# Altium footprint library Button_Switch_SMD.PcbLib: 169 footprints (part 6 of 12)
Each footprint in its own frame and in the unit in brackets; x right, y up, seen from the top. Pads: shape width x height; smd on the part's side, far side on the other; paste and mask are expansions set on the pad; w line width, h text height; cw(c..) or ccw(c..) is an arc to the next point about the centre after c.
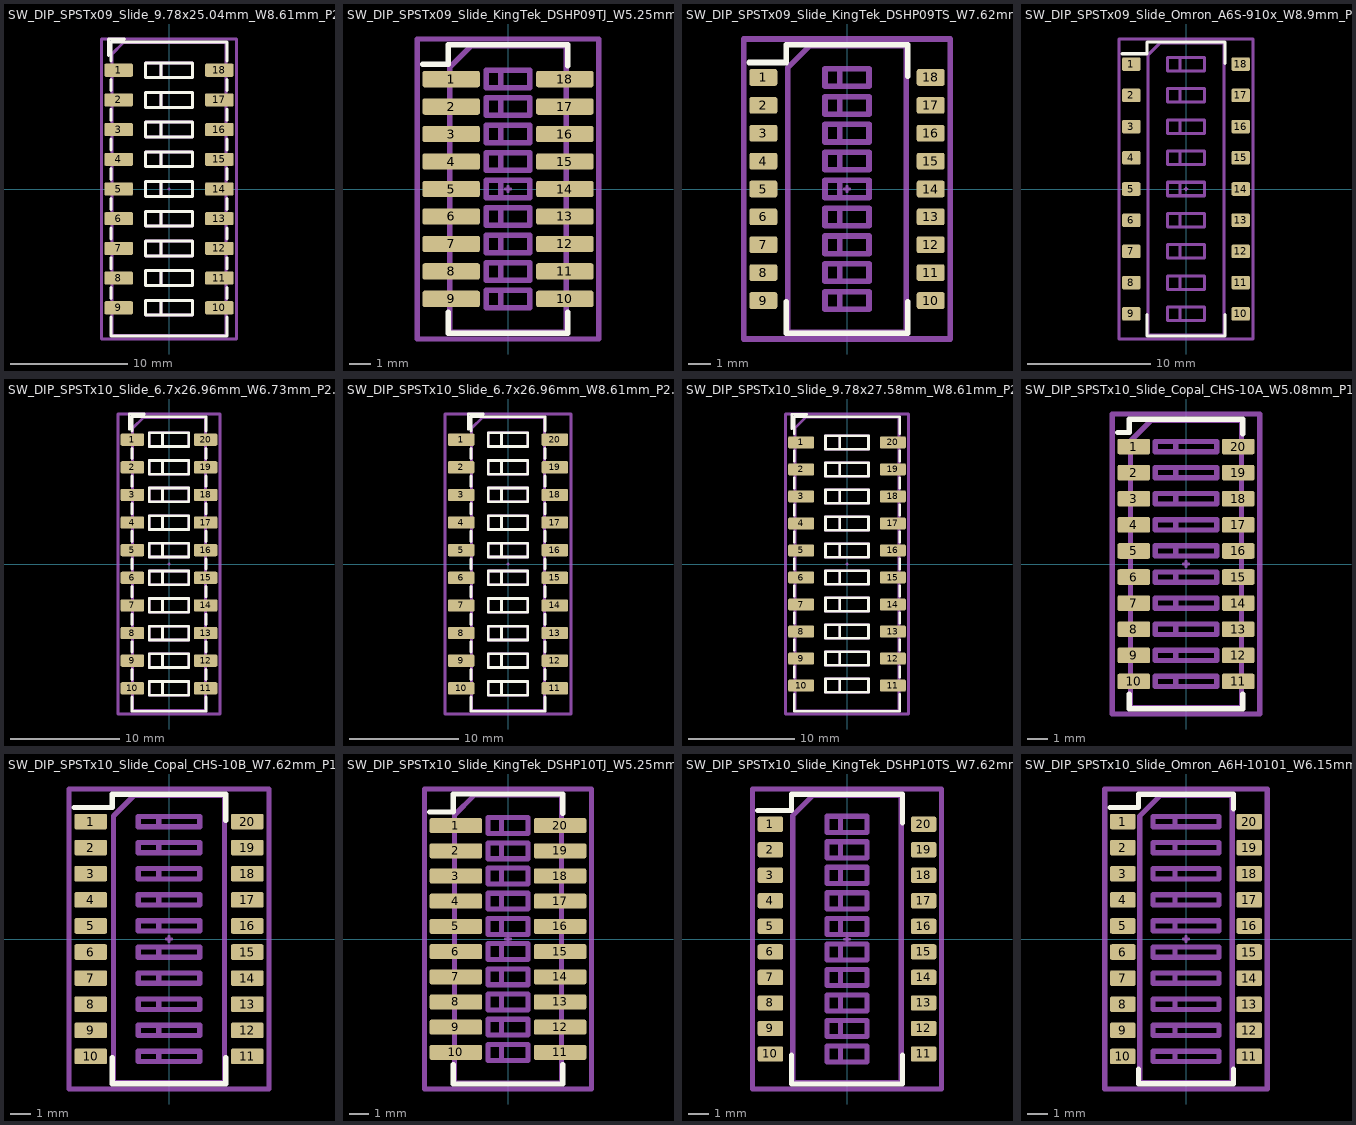
[diagram p5: the footprints below, top view; thin cyan lines are the x and y axes]

## SW_DIP_SPSTx09_Slide_9.78x25.04mm_W8.61mm_P2.54mm [mm] "SW_DIP_SPSTx09_Slide_9.78x25.04mm_W8.61mm_P2.54mm"
pads (18):
  rrect22% 2.44x1.12 smd: 1(-4.305,10.16) 2(-4.305,7.62) 3(-4.305,5.08) 4(-4.305,2.54) 5(-4.305,0) 6(-4.305,-2.54) 7(-4.305,-5.08) 8(-4.305,-7.62) 9(-4.305,-10.16) 10(4.305,-10.16) 11(4.305,-7.62) 12(4.305,-5.08) 13(4.305,-2.54) 14(4.305,0) 15(4.305,2.54) 16(4.305,5.08) 17(4.305,7.62) 18(4.305,10.16)
F.SilkS:
  lines w0.254: -5.19,11.437 -5.19,12.82 -3.807,12.82 ; -4.95,-10.96 -4.95,-12.58 4.95,-12.58 4.95,-10.96 ; -4.95,-9.36 -4.95,-8.42 ; -4.95,-6.82 -4.95,-5.88 ; -4.95,-4.28 -4.95,-3.34 ; -4.95,-1.74 -4.95,-0.8 ; -4.95,0.8 -4.95,1.74 ; -4.95,3.34 -4.95,4.28 ; -4.95,5.88 -4.95,6.82 ; -4.95,8.42 -4.95,9.36 ; -4.95,10.96 -4.95,12.58 4.95,12.58 4.95,10.96 ; 4.95,-9.36 4.95,-8.42 ; 4.95,-6.82 4.95,-5.88 ; 4.95,-4.28 4.95,-3.34 ; 4.95,-1.74 4.95,-0.8 ; 4.95,0.8 4.95,1.74 ; 4.95,3.34 4.95,4.28 ; 4.95,5.88 4.95,6.82 ; 4.95,8.42 4.95,9.36 ; -2.03,-10.795 -2.03,-9.525 ; -2.03,-10.795 -0.677,-10.795 ; -2.03,-10.795 -2.03,-9.525 ; -2.03,-10.795 2.03,-10.795 2.03,-9.525 -2.03,-9.525 ; -2.03,-9.525 -0.677,-9.525 ; -2.03,-8.255 -2.03,-6.985 ; -2.03,-8.255 -0.677,-8.255 ; -2.03,-8.255 -2.03,-6.985 ; -2.03,-8.255 2.03,-8.255 2.03,-6.985 -2.03,-6.985 ; -2.03,-6.985 -0.677,-6.985 ; -2.03,-5.715 -2.03,-4.445 ; -2.03,-5.715 -0.677,-5.715 ; -2.03,-5.715 -2.03,-4.445 ; -2.03,-5.715 2.03,-5.715 2.03,-4.445 -2.03,-4.445 ; -2.03,-4.445 -0.677,-4.445 ; -2.03,-3.175 -2.03,-1.905 ; -2.03,-3.175 -0.677,-3.175 ; -2.03,-3.175 -2.03,-1.905 ; -2.03,-3.175 2.03,-3.175 2.03,-1.905 -2.03,-1.905 ; -2.03,-1.905 -0.677,-1.905 ; -2.03,-0.635 -2.03,0.635 ; -2.03,-0.635 -0.677,-0.635 ; -2.03,-0.635 -2.03,0.635 ; -2.03,-0.635 2.03,-0.635 2.03,0.635 -2.03,0.635 ; -2.03,0.635 -0.677,0.635 ; -2.03,1.905 -2.03,3.175 ; -2.03,1.905 -0.677,1.905 ; -2.03,1.905 -2.03,3.175 ; -2.03,1.905 2.03,1.905 2.03,3.175 -2.03,3.175 ; -2.03,3.175 -0.677,3.175 ; -2.03,4.445 -2.03,5.715 ; -2.03,4.445 -0.677,4.445 ; -2.03,4.445 -2.03,5.715 ; -2.03,4.445 2.03,4.445 2.03,5.715 -2.03,5.715 ; -2.03,5.715 -0.677,5.715 ; -2.03,6.985 -2.03,8.255 ; -2.03,6.985 -0.677,6.985 ; -2.03,6.985 -2.03,8.255 ; -2.03,6.985 2.03,6.985 2.03,8.255 -2.03,8.255 ; -2.03,8.255 -0.677,8.255 ; -2.03,9.525 -2.03,10.795 ; -2.03,9.525 -0.677,9.525 ; -2.03,9.525 -2.03,10.795 ; -2.03,9.525 2.03,9.525 2.03,10.795 -2.03,10.795 ; -2.03,10.795 -0.677,10.795 ; -0.677,-10.795 -0.677,-9.525 ; -0.677,-10.795 -0.677,-9.525 ; -0.677,-8.255 -0.677,-6.985 ; -0.677,-8.255 -0.677,-6.985 ; -0.677,-5.715 -0.677,-4.445 ; -0.677,-5.715 -0.677,-4.445 ; -0.677,-3.175 -0.677,-1.905 ; -0.677,-3.175 -0.677,-1.905 ; -0.677,-0.635 -0.677,0.635 ; -0.677,-0.635 -0.677,0.635 ; -0.677,1.905 -0.677,3.175 ; -0.677,1.905 -0.677,3.175 ; -0.677,4.445 -0.677,5.715 ; -0.677,4.445 -0.677,5.715 ; -0.677,6.985 -0.677,8.255 ; -0.677,6.985 -0.677,8.255 ; -0.677,9.525 -0.677,10.795 ; -0.677,9.525 -0.677,10.795
Top Component Center:
  lines w0.127: -0.127,0 0.127,0 ; 0,-0.127 0,0.127
Top Assembly:
  lines w0.254: -2.03,-10.795 -2.03,-9.525 ; -2.03,-10.795 -0.677,-10.795 ; -2.03,-10.795 -2.03,-9.525 ; -2.03,-10.795 2.03,-10.795 2.03,-9.525 -2.03,-9.525 ; -2.03,-9.525 -0.677,-9.525 ; -2.03,-8.255 -2.03,-6.985 ; -2.03,-8.255 -0.677,-8.255 ; -2.03,-8.255 -2.03,-6.985 ; -2.03,-8.255 2.03,-8.255 2.03,-6.985 -2.03,-6.985 ; -2.03,-6.985 -0.677,-6.985 ; -2.03,-5.715 -2.03,-4.445 ; -2.03,-5.715 -0.677,-5.715 ; -2.03,-5.715 -2.03,-4.445 ; -2.03,-5.715 2.03,-5.715 2.03,-4.445 -2.03,-4.445 ; -2.03,-4.445 -0.677,-4.445 ; -2.03,-3.175 -2.03,-1.905 ; -2.03,-3.175 -0.677,-3.175 ; -2.03,-3.175 -2.03,-1.905 ; -2.03,-3.175 2.03,-3.175 2.03,-1.905 -2.03,-1.905 ; -2.03,-1.905 -0.677,-1.905 ; -2.03,-0.635 -2.03,0.635 ; -2.03,-0.635 -0.677,-0.635 ; -2.03,-0.635 -2.03,0.635 ; -2.03,-0.635 2.03,-0.635 2.03,0.635 -2.03,0.635 ; -2.03,0.635 -0.677,0.635 ; -2.03,1.905 -2.03,3.175 ; -2.03,1.905 -0.677,1.905 ; -2.03,1.905 -2.03,3.175 ; -2.03,1.905 2.03,1.905 2.03,3.175 -2.03,3.175 ; -2.03,3.175 -0.677,3.175 ; -2.03,4.445 -2.03,5.715 ; -2.03,4.445 -0.677,4.445 ; -2.03,4.445 -2.03,5.715 ; -2.03,4.445 2.03,4.445 2.03,5.715 -2.03,5.715 ; -2.03,5.715 -0.677,5.715 ; -2.03,6.985 -2.03,8.255 ; -2.03,6.985 -0.677,6.985 ; -2.03,6.985 -2.03,8.255 ; -2.03,6.985 2.03,6.985 2.03,8.255 -2.03,8.255 ; -2.03,8.255 -0.677,8.255 ; -2.03,9.525 -2.03,10.795 ; -2.03,9.525 -0.677,9.525 ; -2.03,9.525 -2.03,10.795 ; -2.03,9.525 2.03,9.525 2.03,10.795 -2.03,10.795 ; -2.03,10.795 -0.677,10.795 ; -0.677,-10.795 -0.677,-9.525 ; -0.677,-10.795 -0.677,-9.525 ; -0.677,-8.255 -0.677,-6.985 ; -0.677,-8.255 -0.677,-6.985 ; -0.677,-5.715 -0.677,-4.445 ; -0.677,-5.715 -0.677,-4.445 ; -0.677,-3.175 -0.677,-1.905 ; -0.677,-3.175 -0.677,-1.905 ; -0.677,-0.635 -0.677,0.635 ; -0.677,-0.635 -0.677,0.635 ; -0.677,1.905 -0.677,3.175 ; -0.677,1.905 -0.677,3.175 ; -0.677,4.445 -0.677,5.715 ; -0.677,4.445 -0.677,5.715 ; -0.677,6.985 -0.677,8.255 ; -0.677,6.985 -0.677,8.255 ; -0.677,9.525 -0.677,10.795 ; -0.677,9.525 -0.677,10.795 ; -4.89,-12.52 -4.89,11.52 -3.89,12.52 4.89,12.52 4.89,-12.52 -4.89,-12.52
  text "on" at 0.643,11.271 h0.8
Top Courtyard:
  lines w0.254: -5.78,-12.83 -5.78,12.83 5.78,12.83 5.78,-12.83 -5.78,-12.83
Top Designator:
  text ".Designator" at -3.432,0.798 h1.52
3D body "SW_DIP_SPSTx09_Slide_9.78x25.04mm_W8.61mm_P2.54mm.step": height 8.6, standoff 0, extent -5.2,-12.52 5.2,12.52

## SW_DIP_SPSTx09_Slide_KingTek_DSHP09TJ_W5.25mm_P1.27mm_JPin [mm] "SW_DIP_SPSTx09_Slide_KingTek_DSHP09TJ_W5.25mm_P1.27mm_JPin"
pads (18):
  rrect25% 2.65x0.76 smd: 1(-2.625,5.08) 2(-2.625,3.81) 3(-2.625,2.54) 4(-2.625,1.27) 5(-2.625,0) 6(-2.625,-1.27) 7(-2.625,-2.54) 8(-2.625,-3.81) 9(-2.625,-5.08) 10(2.625,-5.08) 11(2.625,-3.81) 12(2.625,-2.54) 13(2.625,-1.27) 14(2.625,0) 15(2.625,1.27) 16(2.625,2.54) 17(2.625,3.81) 18(2.625,5.08)
F.SilkS:
  lines w0.254: -3.95,5.76 -2.76,5.76 -2.76,6.675 2.76,6.675 2.76,5.7 ; -2.76,-5.7 -2.76,-6.675 2.76,-6.675 2.76,-5.7
Top Component Center:
  lines w0.127: -0.127,0 0.127,0 ; 0,-0.127 0,0.127
Top Assembly:
  lines w0.254: -1,-5.48 -1,-4.68 ; -1,-5.48 -0.333,-5.48 ; -1,-5.48 -1,-4.68 ; -1,-5.48 1,-5.48 1,-4.68 -1,-4.68 ; -1,-4.68 -0.333,-4.68 ; -1,-4.21 -1,-3.41 ; -1,-4.21 -0.333,-4.21 ; -1,-4.21 -1,-3.41 ; -1,-4.21 1,-4.21 1,-3.41 -1,-3.41 ; -1,-3.41 -0.333,-3.41 ; -1,-2.94 -1,-2.14 ; -1,-2.94 -0.333,-2.94 ; -1,-2.94 -1,-2.14 ; -1,-2.94 1,-2.94 1,-2.14 -1,-2.14 ; -1,-2.14 -0.333,-2.14 ; -1,-1.67 -1,-0.87 ; -1,-1.67 -0.333,-1.67 ; -1,-1.67 -1,-0.87 ; -1,-1.67 1,-1.67 1,-0.87 -1,-0.87 ; -1,-0.87 -0.333,-0.87 ; -1,-0.4 -1,0.4 ; -1,-0.4 -0.333,-0.4 ; -1,-0.4 -1,0.4 ; -1,-0.4 1,-0.4 1,0.4 -1,0.4 ; -1,0.4 -0.333,0.4 ; -1,0.87 -1,1.67 ; -1,0.87 -0.333,0.87 ; -1,0.87 -1,1.67 ; -1,0.87 1,0.87 1,1.67 -1,1.67 ; -1,1.67 -0.333,1.67 ; -1,2.14 -1,2.94 ; -1,2.14 -0.333,2.14 ; -1,2.14 -1,2.94 ; -1,2.14 1,2.14 1,2.94 -1,2.94 ; -1,2.94 -0.333,2.94 ; -1,3.41 -1,4.21 ; -1,3.41 -0.333,3.41 ; -1,3.41 -1,4.21 ; -1,3.41 1,3.41 1,4.21 -1,4.21 ; -1,4.21 -0.333,4.21 ; -1,4.68 -1,5.48 ; -1,4.68 -0.333,4.68 ; -1,4.68 -1,5.48 ; -1,4.68 1,4.68 1,5.48 -1,5.48 ; -1,5.48 -0.333,5.48 ; -0.333,-5.48 -0.333,-4.68 ; -0.333,-5.48 -0.333,-4.68 ; -0.333,-4.21 -0.333,-3.41 ; -0.333,-4.21 -0.333,-3.41 ; -0.333,-2.94 -0.333,-2.14 ; -0.333,-2.94 -0.333,-2.14 ; -0.333,-1.67 -0.333,-0.87 ; -0.333,-1.67 -0.333,-0.87 ; -0.333,-0.4 -0.333,0.4 ; -0.333,-0.4 -0.333,0.4 ; -0.333,0.87 -0.333,1.67 ; -0.333,0.87 -0.333,1.67 ; -0.333,2.14 -0.333,2.94 ; -0.333,2.14 -0.333,2.94 ; -0.333,3.41 -0.333,4.21 ; -0.333,3.41 -0.333,4.21 ; -0.333,4.68 -0.333,5.48 ; -0.333,4.68 -0.333,5.48 ; -2.7,-6.615 -2.7,5.615 -1.7,6.615 2.7,6.615 2.7,-6.615 -2.7,-6.615
  text "on" at -0.127,5.661 h0.8
Top Courtyard:
  lines w0.254: -4.2,-6.93 -4.2,6.93 4.2,6.93 4.2,-6.93 -4.2,-6.93
Top Designator:
  text ".Designator" at -0.345,3.432 h1.52
3D body "SW_DIP_SPSTx09_Slide_KingTek_DSHP09TJ_W5.25mm_P1.27mm_JPin.step": height 2.4, standoff -0.05, extent -2.8,-6.515 2.8,6.515

## SW_DIP_SPSTx09_Slide_KingTek_DSHP09TS_W7.62mm_P1.27mm [mm] "SW_DIP_SPSTx09_Slide_KingTek_DSHP09TS_W7.62mm_P1.27mm"
pads (18):
  rrect25% 1.27x0.76 smd: 1(-3.81,5.08) 2(-3.81,3.81) 3(-3.81,2.54) 4(-3.81,1.27) 5(-3.81,0) 6(-3.81,-1.27) 7(-3.81,-2.54) 8(-3.81,-3.81) 9(-3.81,-5.08) 10(3.81,-5.08) 11(3.81,-3.81) 12(3.81,-2.54) 13(3.81,-1.27) 14(3.81,0) 15(3.81,1.27) 16(3.81,2.54) 17(3.81,3.81) 18(3.81,5.08)
F.SilkS:
  lines w0.254: -4.445,5.76 -2.76,5.76 -2.76,6.575 2.76,6.575 2.76,5.14 ; -2.76,-5.14 -2.76,-6.575 2.76,-6.575 2.76,-5.14
Top Component Center:
  lines w0.127: -0.127,0 0.127,0 ; 0,-0.127 0,0.127
Top Assembly:
  lines w0.254: -1,-5.48 -1,-4.68 ; -1,-5.48 -0.333,-5.48 ; -1,-5.48 -1,-4.68 ; -1,-5.48 1,-5.48 1,-4.68 -1,-4.68 ; -1,-4.68 -0.333,-4.68 ; -1,-4.21 -1,-3.41 ; -1,-4.21 -0.333,-4.21 ; -1,-4.21 -1,-3.41 ; -1,-4.21 1,-4.21 1,-3.41 -1,-3.41 ; -1,-3.41 -0.333,-3.41 ; -1,-2.94 -1,-2.14 ; -1,-2.94 -0.333,-2.94 ; -1,-2.94 -1,-2.14 ; -1,-2.94 1,-2.94 1,-2.14 -1,-2.14 ; -1,-2.14 -0.333,-2.14 ; -1,-1.67 -1,-0.87 ; -1,-1.67 -0.333,-1.67 ; -1,-1.67 -1,-0.87 ; -1,-1.67 1,-1.67 1,-0.87 -1,-0.87 ; -1,-0.87 -0.333,-0.87 ; -1,-0.4 -1,0.4 ; -1,-0.4 -0.333,-0.4 ; -1,-0.4 -1,0.4 ; -1,-0.4 1,-0.4 1,0.4 -1,0.4 ; -1,0.4 -0.333,0.4 ; -1,0.87 -1,1.67 ; -1,0.87 -0.333,0.87 ; -1,0.87 -1,1.67 ; -1,0.87 1,0.87 1,1.67 -1,1.67 ; -1,1.67 -0.333,1.67 ; -1,2.14 -1,2.94 ; -1,2.14 -0.333,2.14 ; -1,2.14 -1,2.94 ; -1,2.14 1,2.14 1,2.94 -1,2.94 ; -1,2.94 -0.333,2.94 ; -1,3.41 -1,4.21 ; -1,3.41 -0.333,3.41 ; -1,3.41 -1,4.21 ; -1,3.41 1,3.41 1,4.21 -1,4.21 ; -1,4.21 -0.333,4.21 ; -1,4.68 -1,5.48 ; -1,4.68 -0.333,4.68 ; -1,4.68 -1,5.48 ; -1,4.68 1,4.68 1,5.48 -1,5.48 ; -1,5.48 -0.333,5.48 ; -0.333,-5.48 -0.333,-4.68 ; -0.333,-5.48 -0.333,-4.68 ; -0.333,-4.21 -0.333,-3.41 ; -0.333,-4.21 -0.333,-3.41 ; -0.333,-2.94 -0.333,-2.14 ; -0.333,-2.94 -0.333,-2.14 ; -0.333,-1.67 -0.333,-0.87 ; -0.333,-1.67 -0.333,-0.87 ; -0.333,-0.4 -0.333,0.4 ; -0.333,-0.4 -0.333,0.4 ; -0.333,0.87 -0.333,1.67 ; -0.333,0.87 -0.333,1.67 ; -0.333,2.14 -0.333,2.94 ; -0.333,2.14 -0.333,2.94 ; -0.333,3.41 -0.333,4.21 ; -0.333,3.41 -0.333,4.21 ; -0.333,4.68 -0.333,5.48 ; -0.333,4.68 -0.333,5.48 ; -2.7,-6.515 -2.7,5.515 -1.7,6.515 2.7,6.515 2.7,-6.515 -2.7,-6.515
  text "on" at -0.72,5.611 h0.8
Top Courtyard:
  lines w0.254: -4.7,-6.83 -4.7,6.83 4.7,6.83 4.7,-6.83 -4.7,-6.83
Top Designator:
  text ".Designator" at -2.25,3.432 h1.52
3D body "SW_DIP_SPSTx09_Slide_KingTek_DSHP09TS_W7.62mm_P1.27mm.step": height 2.45, standoff 0.08, extent -4.175,-6.515 4.175,6.515

## SW_DIP_SPSTx09_Slide_Omron_A6S-910x_W8.9mm_P2.54mm [mm] "SW_DIP_SPSTx09_Slide_Omron_A6S-910x_W8.9mm_P2.54mm"
pads (18):
  rrect23% 1.5x1.1 smd: 1(-4.45,10.16) 2(-4.45,7.62) 3(-4.45,5.08) 4(-4.45,2.54) 5(-4.45,0) 6(-4.45,-2.54) 7(-4.45,-5.08) 8(-4.45,-7.62) 9(-4.45,-10.16) 10(4.45,-10.16) 11(4.45,-7.62) 12(4.45,-5.08) 13(4.45,-2.54) 14(4.45,0) 15(4.45,2.54) 16(4.45,5.08) 17(4.45,7.62) 18(4.45,10.16)
F.SilkS:
  lines w0.254: -5.2,11.01 -3.16,11.01 -3.16,11.96 3.16,11.96 3.16,10.22 ; -3.16,-10.22 -3.16,-11.96 3.16,-11.96 3.16,-10.22
Top Component Center:
  lines w0.127: -0.127,0 0.127,0 ; 0,-0.127 0,0.127
Top Assembly:
  lines w0.254: -1.5,-10.71 -1.5,-9.61 ; -1.5,-10.71 -0.5,-10.71 ; -1.5,-10.71 -1.5,-9.61 ; -1.5,-10.71 1.5,-10.71 1.5,-9.61 -1.5,-9.61 ; -1.5,-9.61 -0.5,-9.61 ; -1.5,-8.17 -1.5,-7.07 ; -1.5,-8.17 -0.5,-8.17 ; -1.5,-8.17 -1.5,-7.07 ; -1.5,-8.17 1.5,-8.17 1.5,-7.07 -1.5,-7.07 ; -1.5,-7.07 -0.5,-7.07 ; -1.5,-5.63 -1.5,-4.53 ; -1.5,-5.63 -0.5,-5.63 ; -1.5,-5.63 -1.5,-4.53 ; -1.5,-5.63 1.5,-5.63 1.5,-4.53 -1.5,-4.53 ; -1.5,-4.53 -0.5,-4.53 ; -1.5,-3.09 -1.5,-1.99 ; -1.5,-3.09 -0.5,-3.09 ; -1.5,-3.09 -1.5,-1.99 ; -1.5,-3.09 1.5,-3.09 1.5,-1.99 -1.5,-1.99 ; -1.5,-1.99 -0.5,-1.99 ; -1.5,-0.55 -1.5,0.55 ; -1.5,-0.55 -0.5,-0.55 ; -1.5,-0.55 -1.5,0.55 ; -1.5,-0.55 1.5,-0.55 1.5,0.55 -1.5,0.55 ; -1.5,0.55 -0.5,0.55 ; -1.5,1.99 -1.5,3.09 ; -1.5,1.99 -0.5,1.99 ; -1.5,1.99 -1.5,3.09 ; -1.5,1.99 1.5,1.99 1.5,3.09 -1.5,3.09 ; -1.5,3.09 -0.5,3.09 ; -1.5,4.53 -1.5,5.63 ; -1.5,4.53 -0.5,4.53 ; -1.5,4.53 -1.5,5.63 ; -1.5,4.53 1.5,4.53 1.5,5.63 -1.5,5.63 ; -1.5,5.63 -0.5,5.63 ; -1.5,7.07 -1.5,8.17 ; -1.5,7.07 -0.5,7.07 ; -1.5,7.07 -1.5,8.17 ; -1.5,7.07 1.5,7.07 1.5,8.17 -1.5,8.17 ; -1.5,8.17 -0.5,8.17 ; -1.5,9.61 -1.5,10.71 ; -1.5,9.61 -0.5,9.61 ; -1.5,9.61 -1.5,10.71 ; -1.5,9.61 1.5,9.61 1.5,10.71 -1.5,10.71 ; -1.5,10.71 -0.5,10.71 ; -0.5,-10.71 -0.5,-9.61 ; -0.5,-10.71 -0.5,-9.61 ; -0.5,-8.17 -0.5,-7.07 ; -0.5,-8.17 -0.5,-7.07 ; -0.5,-5.63 -0.5,-4.53 ; -0.5,-5.63 -0.5,-4.53 ; -0.5,-3.09 -0.5,-1.99 ; -0.5,-3.09 -0.5,-1.99 ; -0.5,-0.55 -0.5,0.55 ; -0.5,-0.55 -0.5,0.55 ; -0.5,1.99 -0.5,3.09 ; -0.5,1.99 -0.5,3.09 ; -0.5,4.53 -0.5,5.63 ; -0.5,4.53 -0.5,5.63 ; -0.5,7.07 -0.5,8.17 ; -0.5,7.07 -0.5,8.17 ; -0.5,9.61 -0.5,10.71 ; -0.5,9.61 -0.5,10.71 ; -3.1,-11.9 -3.1,10.9 -2.1,11.9 3.1,11.9 3.1,-11.9 -3.1,-11.9
  text "on" at -0.59,10.918 h0.8
Top Courtyard:
  lines w0.254: -5.45,-12.21 -5.45,12.21 5.45,12.21 5.45,-12.21 -5.45,-12.21
Top Designator:
  text ".Designator" at -2.631,3.305 h1.52
3D body "SW_DIP_SPSTx09_Slide_Omron_A6S-910x_W8.9mm_P2.54mm.step": height 3.1, standoff 0.03, extent -4.9,-11.9 4.9,11.9

## SW_DIP_SPSTx10_Slide_6.7x26.96mm_W6.73mm_P2.54mm_LowProfile_JPin [mm] "SW_DIP_SPSTx10_Slide_6.7x26.96mm_W6.73mm_P2.54mm_LowProfile_JPin"
pads (20):
  rrect22% 2.16x1.12 smd: 1(-3.365,11.43) 2(-3.365,8.89) 3(-3.365,6.35) 4(-3.365,3.81) 5(-3.365,1.27) 6(-3.365,-1.27) 7(-3.365,-3.81) 8(-3.365,-6.35) 9(-3.365,-8.89) 10(-3.365,-11.43) 11(3.365,-11.43) 12(3.365,-8.89) 13(3.365,-6.35) 14(3.365,-3.81) 15(3.365,-1.27) 16(3.365,1.27) 17(3.365,3.81) 18(3.365,6.35) 19(3.365,8.89) 20(3.365,11.43)
F.SilkS:
  lines w0.254: -3.65,12.397 -3.65,13.78 -2.267,13.78 ; -3.41,-12.23 -3.41,-13.54 3.41,-13.54 3.41,-12.23 ; -3.41,-10.63 -3.41,-9.69 ; -3.41,-8.09 -3.41,-7.15 ; -3.41,-5.55 -3.41,-4.61 ; -3.41,-3.01 -3.41,-2.07 ; -3.41,-0.47 -3.41,0.47 ; -3.41,2.07 -3.41,3.01 ; -3.41,4.61 -3.41,5.55 ; -3.41,7.15 -3.41,8.09 ; -3.41,9.69 -3.41,10.63 ; -3.41,12.23 -3.41,13.54 3.41,13.54 3.41,12.23 ; 3.41,-10.63 3.41,-9.69 ; 3.41,-8.09 3.41,-7.15 ; 3.41,-5.55 3.41,-4.61 ; 3.41,-3.01 3.41,-2.07 ; 3.41,-0.47 3.41,0.47 ; 3.41,2.07 3.41,3.01 ; 3.41,4.61 3.41,5.55 ; 3.41,7.15 3.41,8.09 ; 3.41,9.69 3.41,10.63 ; -1.81,-12.065 1.81,-12.065 1.81,-10.795 -1.81,-10.795 ; -1.81,-12.065 -1.81,-10.795 ; -1.81,-12.065 -0.603,-12.065 ; -1.81,-12.065 -1.81,-10.795 ; -1.81,-10.795 -0.603,-10.795 ; -1.81,-9.525 1.81,-9.525 1.81,-8.255 -1.81,-8.255 ; -1.81,-9.525 -1.81,-8.255 ; -1.81,-9.525 -0.603,-9.525 ; -1.81,-9.525 -1.81,-8.255 ; -1.81,-8.255 -0.603,-8.255 ; -1.81,-6.985 1.81,-6.985 1.81,-5.715 -1.81,-5.715 ; -1.81,-6.985 -1.81,-5.715 ; -1.81,-6.985 -0.603,-6.985 ; -1.81,-6.985 -1.81,-5.715 ; -1.81,-5.715 -0.603,-5.715 ; -1.81,-4.445 1.81,-4.445 1.81,-3.175 -1.81,-3.175 ; -1.81,-4.445 -1.81,-3.175 ; -1.81,-4.445 -0.603,-4.445 ; -1.81,-4.445 -1.81,-3.175 ; -1.81,-3.175 -0.603,-3.175 ; -1.81,-1.905 1.81,-1.905 1.81,-0.635 -1.81,-0.635 ; -1.81,-1.905 -1.81,-0.635 ; -1.81,-1.905 -0.603,-1.905 ; -1.81,-1.905 -1.81,-0.635 ; -1.81,-0.635 -0.603,-0.635 ; -1.81,0.635 1.81,0.635 1.81,1.905 -1.81,1.905 ; -1.81,0.635 -1.81,1.905 ; -1.81,0.635 -0.603,0.635 ; -1.81,0.635 -1.81,1.905 ; -1.81,1.905 -0.603,1.905 ; -1.81,3.175 1.81,3.175 1.81,4.445 -1.81,4.445 ; -1.81,3.175 -1.81,4.445 ; -1.81,3.175 -0.603,3.175 ; -1.81,3.175 -1.81,4.445 ; -1.81,4.445 -0.603,4.445 ; -1.81,5.715 1.81,5.715 1.81,6.985 -1.81,6.985 ; -1.81,5.715 -1.81,6.985 ; -1.81,5.715 -0.603,5.715 ; -1.81,5.715 -1.81,6.985 ; -1.81,6.985 -0.603,6.985 ; -1.81,8.255 1.81,8.255 1.81,9.525 -1.81,9.525 ; -1.81,8.255 -1.81,9.525 ; -1.81,8.255 -0.603,8.255 ; -1.81,8.255 -1.81,9.525 ; -1.81,9.525 -0.603,9.525 ; -1.81,10.795 1.81,10.795 1.81,12.065 -1.81,12.065 ; -1.81,10.795 -1.81,12.065 ; -1.81,10.795 -0.603,10.795 ; -1.81,10.795 -1.81,12.065 ; -1.81,12.065 -0.603,12.065 ; -0.603,-12.065 -0.603,-10.795 ; -0.603,-12.065 -0.603,-10.795 ; -0.603,-9.525 -0.603,-8.255 ; -0.603,-9.525 -0.603,-8.255 ; -0.603,-6.985 -0.603,-5.715 ; -0.603,-6.985 -0.603,-5.715 ; -0.603,-4.445 -0.603,-3.175 ; -0.603,-4.445 -0.603,-3.175 ; -0.603,-1.905 -0.603,-0.635 ; -0.603,-1.905 -0.603,-0.635 ; -0.603,0.635 -0.603,1.905 ; -0.603,0.635 -0.603,1.905 ; -0.603,3.175 -0.603,4.445 ; -0.603,3.175 -0.603,4.445 ; -0.603,5.715 -0.603,6.985 ; -0.603,5.715 -0.603,6.985 ; -0.603,8.255 -0.603,9.525 ; -0.603,8.255 -0.603,9.525 ; -0.603,10.795 -0.603,12.065 ; -0.603,10.795 -0.603,12.065
Top Component Center:
  lines w0.127: -0.127,0 0.127,0 ; 0,-0.127 0,0.127
Top Assembly:
  lines w0.254: -1.81,-12.065 1.81,-12.065 1.81,-10.795 -1.81,-10.795 ; -1.81,-12.065 -1.81,-10.795 ; -1.81,-12.065 -0.603,-12.065 ; -1.81,-12.065 -1.81,-10.795 ; -1.81,-10.795 -0.603,-10.795 ; -1.81,-9.525 1.81,-9.525 1.81,-8.255 -1.81,-8.255 ; -1.81,-9.525 -1.81,-8.255 ; -1.81,-9.525 -0.603,-9.525 ; -1.81,-9.525 -1.81,-8.255 ; -1.81,-8.255 -0.603,-8.255 ; -1.81,-6.985 1.81,-6.985 1.81,-5.715 -1.81,-5.715 ; -1.81,-6.985 -1.81,-5.715 ; -1.81,-6.985 -0.603,-6.985 ; -1.81,-6.985 -1.81,-5.715 ; -1.81,-5.715 -0.603,-5.715 ; -1.81,-4.445 1.81,-4.445 1.81,-3.175 -1.81,-3.175 ; -1.81,-4.445 -1.81,-3.175 ; -1.81,-4.445 -0.603,-4.445 ; -1.81,-4.445 -1.81,-3.175 ; -1.81,-3.175 -0.603,-3.175 ; -1.81,-1.905 1.81,-1.905 1.81,-0.635 -1.81,-0.635 ; -1.81,-1.905 -1.81,-0.635 ; -1.81,-1.905 -0.603,-1.905 ; -1.81,-1.905 -1.81,-0.635 ; -1.81,-0.635 -0.603,-0.635 ; -1.81,0.635 1.81,0.635 1.81,1.905 -1.81,1.905 ; -1.81,0.635 -1.81,1.905 ; -1.81,0.635 -0.603,0.635 ; -1.81,0.635 -1.81,1.905 ; -1.81,1.905 -0.603,1.905 ; -1.81,3.175 1.81,3.175 1.81,4.445 -1.81,4.445 ; -1.81,3.175 -1.81,4.445 ; -1.81,3.175 -0.603,3.175 ; -1.81,3.175 -1.81,4.445 ; -1.81,4.445 -0.603,4.445 ; -1.81,5.715 1.81,5.715 1.81,6.985 -1.81,6.985 ; -1.81,5.715 -1.81,6.985 ; -1.81,5.715 -0.603,5.715 ; -1.81,5.715 -1.81,6.985 ; -1.81,6.985 -0.603,6.985 ; -1.81,8.255 1.81,8.255 1.81,9.525 -1.81,9.525 ; -1.81,8.255 -1.81,9.525 ; -1.81,8.255 -0.603,8.255 ; -1.81,8.255 -1.81,9.525 ; -1.81,9.525 -0.603,9.525 ; -1.81,10.795 1.81,10.795 1.81,12.065 -1.81,12.065 ; -1.81,10.795 -1.81,12.065 ; -1.81,10.795 -0.603,10.795 ; -1.81,10.795 -1.81,12.065 ; -1.81,12.065 -0.603,12.065 ; -0.603,-12.065 -0.603,-10.795 ; -0.603,-12.065 -0.603,-10.795 ; -0.603,-9.525 -0.603,-8.255 ; -0.603,-9.525 -0.603,-8.255 ; -0.603,-6.985 -0.603,-5.715 ; -0.603,-6.985 -0.603,-5.715 ; -0.603,-4.445 -0.603,-3.175 ; -0.603,-4.445 -0.603,-3.175 ; -0.603,-1.905 -0.603,-0.635 ; -0.603,-1.905 -0.603,-0.635 ; -0.603,0.635 -0.603,1.905 ; -0.603,0.635 -0.603,1.905 ; -0.603,3.175 -0.603,4.445 ; -0.603,3.175 -0.603,4.445 ; -0.603,5.715 -0.603,6.985 ; -0.603,5.715 -0.603,6.985 ; -0.603,8.255 -0.603,9.525 ; -0.603,8.255 -0.603,9.525 ; -0.603,10.795 -0.603,12.065 ; -0.603,10.795 -0.603,12.065 ; -3.35,-13.48 3.35,-13.48 3.35,13.48 -2.35,13.48 -3.35,12.48 -3.35,-13.48
  text "on" at 0.233,12.386 h0.8
Top Courtyard:
  lines w0.254: -4.7,-13.79 4.7,-13.79 4.7,13.79 -4.7,13.79 -4.7,-13.79
Top Designator:
  text ".Designator" at -3.432,-0.345 h1.52
3D body "SW_DIP_SPSTx10_Slide_6.7x26.96mm_W6.73mm_P2.54mm_LowProfile_JPin.step": height 3.2, standoff -0.1, extent -3.45,-13.48 3.45,13.48

## SW_DIP_SPSTx10_Slide_6.7x26.96mm_W8.61mm_P2.54mm_LowProfile [mm] "SW_DIP_SPSTx10_Slide_6.7x26.96mm_W8.61mm_P2.54mm_LowProfile"
pads (20):
  rrect22% 2.44x1.12 smd: 1(-4.305,11.43) 2(-4.305,8.89) 3(-4.305,6.35) 4(-4.305,3.81) 5(-4.305,1.27) 6(-4.305,-1.27) 7(-4.305,-3.81) 8(-4.305,-6.35) 9(-4.305,-8.89) 10(-4.305,-11.43) 11(4.305,-11.43) 12(4.305,-8.89) 13(4.305,-6.35) 14(4.305,-3.81) 15(4.305,-1.27) 16(4.305,1.27) 17(4.305,3.81) 18(4.305,6.35) 19(4.305,8.89) 20(4.305,11.43)
F.SilkS:
  lines w0.254: -3.65,12.397 -3.65,13.78 -2.267,13.78 ; -3.41,-12.23 -3.41,-13.54 3.41,-13.54 3.41,-12.23 ; -3.41,-10.63 -3.41,-9.69 ; -3.41,-8.09 -3.41,-7.15 ; -3.41,-5.55 -3.41,-4.61 ; -3.41,-3.01 -3.41,-2.07 ; -3.41,-0.47 -3.41,0.47 ; -3.41,2.07 -3.41,3.01 ; -3.41,4.61 -3.41,5.55 ; -3.41,7.15 -3.41,8.09 ; -3.41,9.69 -3.41,10.63 ; -3.41,12.23 -3.41,13.54 3.41,13.54 3.41,12.23 ; 3.41,-10.63 3.41,-9.69 ; 3.41,-8.09 3.41,-7.15 ; 3.41,-5.55 3.41,-4.61 ; 3.41,-3.01 3.41,-2.07 ; 3.41,-0.47 3.41,0.47 ; 3.41,2.07 3.41,3.01 ; 3.41,4.61 3.41,5.55 ; 3.41,7.15 3.41,8.09 ; 3.41,9.69 3.41,10.63 ; -1.81,-12.065 -1.81,-10.795 ; -1.81,-12.065 -0.603,-12.065 ; -1.81,-12.065 -1.81,-10.795 ; -1.81,-12.065 1.81,-12.065 1.81,-10.795 -1.81,-10.795 ; -1.81,-10.795 -0.603,-10.795 ; -1.81,-9.525 -1.81,-8.255 ; -1.81,-9.525 -0.603,-9.525 ; -1.81,-9.525 -1.81,-8.255 ; -1.81,-9.525 1.81,-9.525 1.81,-8.255 -1.81,-8.255 ; -1.81,-8.255 -0.603,-8.255 ; -1.81,-6.985 -1.81,-5.715 ; -1.81,-6.985 -0.603,-6.985 ; -1.81,-6.985 -1.81,-5.715 ; -1.81,-6.985 1.81,-6.985 1.81,-5.715 -1.81,-5.715 ; -1.81,-5.715 -0.603,-5.715 ; -1.81,-4.445 -1.81,-3.175 ; -1.81,-4.445 -0.603,-4.445 ; -1.81,-4.445 -1.81,-3.175 ; -1.81,-4.445 1.81,-4.445 1.81,-3.175 -1.81,-3.175 ; -1.81,-3.175 -0.603,-3.175 ; -1.81,-1.905 -1.81,-0.635 ; -1.81,-1.905 -0.603,-1.905 ; -1.81,-1.905 -1.81,-0.635 ; -1.81,-1.905 1.81,-1.905 1.81,-0.635 -1.81,-0.635 ; -1.81,-0.635 -0.603,-0.635 ; -1.81,0.635 -1.81,1.905 ; -1.81,0.635 -0.603,0.635 ; -1.81,0.635 -1.81,1.905 ; -1.81,0.635 1.81,0.635 1.81,1.905 -1.81,1.905 ; -1.81,1.905 -0.603,1.905 ; -1.81,3.175 -1.81,4.445 ; -1.81,3.175 -0.603,3.175 ; -1.81,3.175 -1.81,4.445 ; -1.81,3.175 1.81,3.175 1.81,4.445 -1.81,4.445 ; -1.81,4.445 -0.603,4.445 ; -1.81,5.715 -1.81,6.985 ; -1.81,5.715 -0.603,5.715 ; -1.81,5.715 -1.81,6.985 ; -1.81,5.715 1.81,5.715 1.81,6.985 -1.81,6.985 ; -1.81,6.985 -0.603,6.985 ; -1.81,8.255 -1.81,9.525 ; -1.81,8.255 -0.603,8.255 ; -1.81,8.255 -1.81,9.525 ; -1.81,8.255 1.81,8.255 1.81,9.525 -1.81,9.525 ; -1.81,9.525 -0.603,9.525 ; -1.81,10.795 -1.81,12.065 ; -1.81,10.795 -0.603,10.795 ; -1.81,10.795 -1.81,12.065 ; -1.81,10.795 1.81,10.795 1.81,12.065 -1.81,12.065 ; -1.81,12.065 -0.603,12.065 ; -0.603,-12.065 -0.603,-10.795 ; -0.603,-12.065 -0.603,-10.795 ; -0.603,-9.525 -0.603,-8.255 ; -0.603,-9.525 -0.603,-8.255 ; -0.603,-6.985 -0.603,-5.715 ; -0.603,-6.985 -0.603,-5.715 ; -0.603,-4.445 -0.603,-3.175 ; -0.603,-4.445 -0.603,-3.175 ; -0.603,-1.905 -0.603,-0.635 ; -0.603,-1.905 -0.603,-0.635 ; -0.603,0.635 -0.603,1.905 ; -0.603,0.635 -0.603,1.905 ; -0.603,3.175 -0.603,4.445 ; -0.603,3.175 -0.603,4.445 ; -0.603,5.715 -0.603,6.985 ; -0.603,5.715 -0.603,6.985 ; -0.603,8.255 -0.603,9.525 ; -0.603,8.255 -0.603,9.525 ; -0.603,10.795 -0.603,12.065 ; -0.603,10.795 -0.603,12.065
Top Component Center:
  lines w0.127: -0.127,0 0.127,0 ; 0,-0.127 0,0.127
Top Assembly:
  lines w0.254: -1.81,-12.065 -1.81,-10.795 ; -1.81,-12.065 -0.603,-12.065 ; -1.81,-12.065 -1.81,-10.795 ; -1.81,-12.065 1.81,-12.065 1.81,-10.795 -1.81,-10.795 ; -1.81,-10.795 -0.603,-10.795 ; -1.81,-9.525 -1.81,-8.255 ; -1.81,-9.525 -0.603,-9.525 ; -1.81,-9.525 -1.81,-8.255 ; -1.81,-9.525 1.81,-9.525 1.81,-8.255 -1.81,-8.255 ; -1.81,-8.255 -0.603,-8.255 ; -1.81,-6.985 -1.81,-5.715 ; -1.81,-6.985 -0.603,-6.985 ; -1.81,-6.985 -1.81,-5.715 ; -1.81,-6.985 1.81,-6.985 1.81,-5.715 -1.81,-5.715 ; -1.81,-5.715 -0.603,-5.715 ; -1.81,-4.445 -1.81,-3.175 ; -1.81,-4.445 -0.603,-4.445 ; -1.81,-4.445 -1.81,-3.175 ; -1.81,-4.445 1.81,-4.445 1.81,-3.175 -1.81,-3.175 ; -1.81,-3.175 -0.603,-3.175 ; -1.81,-1.905 -1.81,-0.635 ; -1.81,-1.905 -0.603,-1.905 ; -1.81,-1.905 -1.81,-0.635 ; -1.81,-1.905 1.81,-1.905 1.81,-0.635 -1.81,-0.635 ; -1.81,-0.635 -0.603,-0.635 ; -1.81,0.635 -1.81,1.905 ; -1.81,0.635 -0.603,0.635 ; -1.81,0.635 -1.81,1.905 ; -1.81,0.635 1.81,0.635 1.81,1.905 -1.81,1.905 ; -1.81,1.905 -0.603,1.905 ; -1.81,3.175 -1.81,4.445 ; -1.81,3.175 -0.603,3.175 ; -1.81,3.175 -1.81,4.445 ; -1.81,3.175 1.81,3.175 1.81,4.445 -1.81,4.445 ; -1.81,4.445 -0.603,4.445 ; -1.81,5.715 -1.81,6.985 ; -1.81,5.715 -0.603,5.715 ; -1.81,5.715 -1.81,6.985 ; -1.81,5.715 1.81,5.715 1.81,6.985 -1.81,6.985 ; -1.81,6.985 -0.603,6.985 ; -1.81,8.255 -1.81,9.525 ; -1.81,8.255 -0.603,8.255 ; -1.81,8.255 -1.81,9.525 ; -1.81,8.255 1.81,8.255 1.81,9.525 -1.81,9.525 ; -1.81,9.525 -0.603,9.525 ; -1.81,10.795 -1.81,12.065 ; -1.81,10.795 -0.603,10.795 ; -1.81,10.795 -1.81,12.065 ; -1.81,10.795 1.81,10.795 1.81,12.065 -1.81,12.065 ; -1.81,12.065 -0.603,12.065 ; -0.603,-12.065 -0.603,-10.795 ; -0.603,-12.065 -0.603,-10.795 ; -0.603,-9.525 -0.603,-8.255 ; -0.603,-9.525 -0.603,-8.255 ; -0.603,-6.985 -0.603,-5.715 ; -0.603,-6.985 -0.603,-5.715 ; -0.603,-4.445 -0.603,-3.175 ; -0.603,-4.445 -0.603,-3.175 ; -0.603,-1.905 -0.603,-0.635 ; -0.603,-1.905 -0.603,-0.635 ; -0.603,0.635 -0.603,1.905 ; -0.603,0.635 -0.603,1.905 ; -0.603,3.175 -0.603,4.445 ; -0.603,3.175 -0.603,4.445 ; -0.603,5.715 -0.603,6.985 ; -0.603,5.715 -0.603,6.985 ; -0.603,8.255 -0.603,9.525 ; -0.603,8.255 -0.603,9.525 ; -0.603,10.795 -0.603,12.065 ; -0.603,10.795 -0.603,12.065 ; -3.35,-13.48 -3.35,12.48 -2.35,13.48 3.35,13.48 3.35,-13.48 -3.35,-13.48
  text "on" at -0.237,12.386 h0.8
Top Courtyard:
  lines w0.254: -5.78,-13.79 -5.78,13.79 5.78,13.79 5.78,-13.79 -5.78,-13.79
Top Designator:
  text ".Designator" at -3.432,-0.345 h1.52
3D body "SW_DIP_SPSTx10_Slide_6.7x26.96mm_W8.61mm_P2.54mm_LowProfile.step": height 2.7, standoff 0, extent -4.305,-13.48 4.305,13.48

## SW_DIP_SPSTx10_Slide_9.78x27.58mm_W8.61mm_P2.54mm [mm] "SW_DIP_SPSTx10_Slide_9.78x27.58mm_W8.61mm_P2.54mmSW_DIP_SPSTx10_Slide_9.78x27.58mm_W8.61mm_P2.54mmSW_DIP_SPSTx10_Slide_9.78x27.58mm_W8.61mm_P2.54mmSW_DIP_SPSTx10_Slide_9.78x27.58mm_W8.61mm_P2.54mmSW_DIP_SPSTx10_Slide_9.78x27.58mm_W8.61mm_P2.54mmSW_DIP_SPSTx10_Slide_9.78x27.58mm_W8.61mm_P2.54mmSW_DIP_SPSTx10_Slide_9.78x27.58mm_W8.61mm_P2.54mmSW_DIP_SPSTx10_Slide_9.78x27.58mm_W8.61mm_P2.54mmSW_DIP_SPSTx10_Slide_9.78x27.58mm_W8.61mm_P2.54mmSW_DIP_SPSTx10_Slide_9.78x27.58mm_W8.61mm_P2.54mmSW_DIP_SPSTx10_Slide_9.78x27.58mm_W8.61mm_P2.54mm"
pads (20):
  rrect22% 2.44x1.12 smd: 1(-4.305,11.43) 2(-4.305,8.89) 3(-4.305,6.35) 4(-4.305,3.81) 5(-4.305,1.27) 6(-4.305,-1.27) 7(-4.305,-3.81) 8(-4.305,-6.35) 9(-4.305,-8.89) 10(-4.305,-11.43) 11(4.305,-11.43) 12(4.305,-8.89) 13(4.305,-6.35) 14(4.305,-3.81) 15(4.305,-1.27) 16(4.305,1.27) 17(4.305,3.81) 18(4.305,6.35) 19(4.305,8.89) 20(4.305,11.43)
F.SilkS:
  lines w0.254: -5.19,12.707 -5.19,14.09 -3.807,14.09 ; -4.95,-12.23 -4.95,-13.85 4.95,-13.85 4.95,-12.23 ; -4.95,-10.63 -4.95,-9.69 ; -4.95,-8.09 -4.95,-7.15 ; -4.95,-5.55 -4.95,-4.61 ; -4.95,-3.01 -4.95,-2.07 ; -4.95,-0.47 -4.95,0.47 ; -4.95,2.07 -4.95,3.01 ; -4.95,4.61 -4.95,5.55 ; -4.95,7.15 -4.95,8.09 ; -4.95,9.69 -4.95,10.63 ; -4.95,12.23 -4.95,13.85 4.95,13.85 4.95,12.23 ; 4.95,-10.63 4.95,-9.69 ; 4.95,-8.09 4.95,-7.15 ; 4.95,-5.55 4.95,-4.61 ; 4.95,-3.01 4.95,-2.07 ; 4.95,-0.47 4.95,0.47 ; 4.95,2.07 4.95,3.01 ; 4.95,4.61 4.95,5.55 ; 4.95,7.15 4.95,8.09 ; 4.95,9.69 4.95,10.63 ; -2.03,-12.065 -2.03,-10.795 ; -2.03,-12.065 -0.677,-12.065 ; -2.03,-12.065 -2.03,-10.795 ; -2.03,-12.065 2.03,-12.065 2.03,-10.795 -2.03,-10.795 ; -2.03,-10.795 -0.677,-10.795 ; -2.03,-9.525 -2.03,-8.255 ; -2.03,-9.525 -0.677,-9.525 ; -2.03,-9.525 -2.03,-8.255 ; -2.03,-9.525 2.03,-9.525 2.03,-8.255 -2.03,-8.255 ; -2.03,-8.255 -0.677,-8.255 ; -2.03,-6.985 -2.03,-5.715 ; -2.03,-6.985 -0.677,-6.985 ; -2.03,-6.985 -2.03,-5.715 ; -2.03,-6.985 2.03,-6.985 2.03,-5.715 -2.03,-5.715 ; -2.03,-5.715 -0.677,-5.715 ; -2.03,-4.445 -2.03,-3.175 ; -2.03,-4.445 -0.677,-4.445 ; -2.03,-4.445 -2.03,-3.175 ; -2.03,-4.445 2.03,-4.445 2.03,-3.175 -2.03,-3.175 ; -2.03,-3.175 -0.677,-3.175 ; -2.03,-1.905 -2.03,-0.635 ; -2.03,-1.905 -0.677,-1.905 ; -2.03,-1.905 -2.03,-0.635 ; -2.03,-1.905 2.03,-1.905 2.03,-0.635 -2.03,-0.635 ; -2.03,-0.635 -0.677,-0.635 ; -2.03,0.635 -2.03,1.905 ; -2.03,0.635 -0.677,0.635 ; -2.03,0.635 -2.03,1.905 ; -2.03,0.635 2.03,0.635 2.03,1.905 -2.03,1.905 ; -2.03,1.905 -0.677,1.905 ; -2.03,3.175 -2.03,4.445 ; -2.03,3.175 -0.677,3.175 ; -2.03,3.175 -2.03,4.445 ; -2.03,3.175 2.03,3.175 2.03,4.445 -2.03,4.445 ; -2.03,4.445 -0.677,4.445 ; -2.03,5.715 -2.03,6.985 ; -2.03,5.715 -0.677,5.715 ; -2.03,5.715 -2.03,6.985 ; -2.03,5.715 2.03,5.715 2.03,6.985 -2.03,6.985 ; -2.03,6.985 -0.677,6.985 ; -2.03,8.255 -2.03,9.525 ; -2.03,8.255 -0.677,8.255 ; -2.03,8.255 -2.03,9.525 ; -2.03,8.255 2.03,8.255 2.03,9.525 -2.03,9.525 ; -2.03,9.525 -0.677,9.525 ; -2.03,10.795 -2.03,12.065 ; -2.03,10.795 -0.677,10.795 ; -2.03,10.795 -2.03,12.065 ; -2.03,10.795 2.03,10.795 2.03,12.065 -2.03,12.065 ; -2.03,12.065 -0.677,12.065 ; -0.677,-12.065 -0.677,-10.795 ; -0.677,-12.065 -0.677,-10.795 ; -0.677,-9.525 -0.677,-8.255 ; -0.677,-9.525 -0.677,-8.255 ; -0.677,-6.985 -0.677,-5.715 ; -0.677,-6.985 -0.677,-5.715 ; -0.677,-4.445 -0.677,-3.175 ; -0.677,-4.445 -0.677,-3.175 ; -0.677,-1.905 -0.677,-0.635 ; -0.677,-1.905 -0.677,-0.635 ; -0.677,0.635 -0.677,1.905 ; -0.677,0.635 -0.677,1.905 ; -0.677,3.175 -0.677,4.445 ; -0.677,3.175 -0.677,4.445 ; -0.677,5.715 -0.677,6.985 ; -0.677,5.715 -0.677,6.985 ; -0.677,8.255 -0.677,9.525 ; -0.677,8.255 -0.677,9.525 ; -0.677,10.795 -0.677,12.065 ; -0.677,10.795 -0.677,12.065
Top Component Center:
  lines w0.127: -0.127,0 0.127,0 ; 0,-0.127 0,0.127
Top Assembly:
  lines w0.254: -2.03,-12.065 -2.03,-10.795 ; -2.03,-12.065 -0.677,-12.065 ; -2.03,-12.065 -2.03,-10.795 ; -2.03,-12.065 2.03,-12.065 2.03,-10.795 -2.03,-10.795 ; -2.03,-10.795 -0.677,-10.795 ; -2.03,-9.525 -2.03,-8.255 ; -2.03,-9.525 -0.677,-9.525 ; -2.03,-9.525 -2.03,-8.255 ; -2.03,-9.525 2.03,-9.525 2.03,-8.255 -2.03,-8.255 ; -2.03,-8.255 -0.677,-8.255 ; -2.03,-6.985 -2.03,-5.715 ; -2.03,-6.985 -0.677,-6.985 ; -2.03,-6.985 -2.03,-5.715 ; -2.03,-6.985 2.03,-6.985 2.03,-5.715 -2.03,-5.715 ; -2.03,-5.715 -0.677,-5.715 ; -2.03,-4.445 -2.03,-3.175 ; -2.03,-4.445 -0.677,-4.445 ; -2.03,-4.445 -2.03,-3.175 ; -2.03,-4.445 2.03,-4.445 2.03,-3.175 -2.03,-3.175 ; -2.03,-3.175 -0.677,-3.175 ; -2.03,-1.905 -2.03,-0.635 ; -2.03,-1.905 -0.677,-1.905 ; -2.03,-1.905 -2.03,-0.635 ; -2.03,-1.905 2.03,-1.905 2.03,-0.635 -2.03,-0.635 ; -2.03,-0.635 -0.677,-0.635 ; -2.03,0.635 -2.03,1.905 ; -2.03,0.635 -0.677,0.635 ; -2.03,0.635 -2.03,1.905 ; -2.03,0.635 2.03,0.635 2.03,1.905 -2.03,1.905 ; -2.03,1.905 -0.677,1.905 ; -2.03,3.175 -2.03,4.445 ; -2.03,3.175 -0.677,3.175 ; -2.03,3.175 -2.03,4.445 ; -2.03,3.175 2.03,3.175 2.03,4.445 -2.03,4.445 ; -2.03,4.445 -0.677,4.445 ; -2.03,5.715 -2.03,6.985 ; -2.03,5.715 -0.677,5.715 ; -2.03,5.715 -2.03,6.985 ; -2.03,5.715 2.03,5.715 2.03,6.985 -2.03,6.985 ; -2.03,6.985 -0.677,6.985 ; -2.03,8.255 -2.03,9.525 ; -2.03,8.255 -0.677,8.255 ; -2.03,8.255 -2.03,9.525 ; -2.03,8.255 2.03,8.255 2.03,9.525 -2.03,9.525 ; -2.03,9.525 -0.677,9.525 ; -2.03,10.795 -2.03,12.065 ; -2.03,10.795 -0.677,10.795 ; -2.03,10.795 -2.03,12.065 ; -2.03,10.795 2.03,10.795 2.03,12.065 -2.03,12.065 ; -2.03,12.065 -0.677,12.065 ; -0.677,-12.065 -0.677,-10.795 ; -0.677,-12.065 -0.677,-10.795 ; -0.677,-9.525 -0.677,-8.255 ; -0.677,-9.525 -0.677,-8.255 ; -0.677,-6.985 -0.677,-5.715 ; -0.677,-6.985 -0.677,-5.715 ; -0.677,-4.445 -0.677,-3.175 ; -0.677,-4.445 -0.677,-3.175 ; -0.677,-1.905 -0.677,-0.635 ; -0.677,-1.905 -0.677,-0.635 ; -0.677,0.635 -0.677,1.905 ; -0.677,0.635 -0.677,1.905 ; -0.677,3.175 -0.677,4.445 ; -0.677,3.175 -0.677,4.445 ; -0.677,5.715 -0.677,6.985 ; -0.677,5.715 -0.677,6.985 ; -0.677,8.255 -0.677,9.525 ; -0.677,8.255 -0.677,9.525 ; -0.677,10.795 -0.677,12.065 ; -0.677,10.795 -0.677,12.065 ; -4.89,-13.79 -4.89,12.79 -3.89,13.79 4.89,13.79 4.89,-13.79 -4.89,-13.79
  text "on" at 0.643,12.541 h0.8
Top Courtyard:
  lines w0.254: -5.78,-14.1 -5.78,14.1 5.78,14.1 5.78,-14.1 -5.78,-14.1
Top Designator:
  text ".Designator" at -3.432,-0.345 h1.52
3D body "SW_DIP_SPSTx10_Slide_9.78x27.58mm_W8.61mm_P2.54mm.step": height 8.6, standoff 0, extent -5.2,-13.79 5.2,13.79

## SW_DIP_SPSTx10_Slide_Copal_CHS-10A_W5.08mm_P1.27mm_JPin [mm] "SW_DIP_SPSTx10_Slide_Copal_CHS-10A_W5.08mm_P1.27mm_JPin"
pads (20):
  rrect25% 1.6x0.76 smd: 1(-2.54,5.715) 2(-2.54,4.445) 3(-2.54,3.175) 4(-2.54,1.905) 5(-2.54,0.635) 6(-2.54,-0.635) 7(-2.54,-1.905) 8(-2.54,-3.175) 9(-2.54,-4.445) 10(-2.54,-5.715) 11(2.54,-5.715) 12(2.54,-4.445) 13(2.54,-3.175) 14(2.54,-1.905) 15(2.54,-0.635) 16(2.54,0.635) 17(2.54,1.905) 18(2.54,3.175) 19(2.54,4.445) 20(2.54,5.715)
F.SilkS:
  lines w0.254: -3.34,6.395 -2.76,6.395 -2.76,7.045 2.76,7.045 2.76,6.335 ; -2.76,-6.335 -2.76,-7.045 2.76,-7.045 2.76,-6.335
Top Component Center:
  lines w0.127: -0.127,0 0.127,0 ; 0,-0.127 0,0.127
Top Assembly:
  lines w0.254: -1.5,-5.965 -1.5,-5.465 ; -1.5,-5.965 -0.5,-5.965 ; -1.5,-5.965 -1.5,-5.465 ; -1.5,-5.965 1.5,-5.965 1.5,-5.465 -1.5,-5.465 ; -1.5,-5.465 -0.5,-5.465 ; -1.5,-4.695 -1.5,-4.195 ; -1.5,-4.695 -0.5,-4.695 ; -1.5,-4.695 -1.5,-4.195 ; -1.5,-4.695 1.5,-4.695 1.5,-4.195 -1.5,-4.195 ; -1.5,-4.195 -0.5,-4.195 ; -1.5,-3.425 -1.5,-2.925 ; -1.5,-3.425 -0.5,-3.425 ; -1.5,-3.425 -1.5,-2.925 ; -1.5,-3.425 1.5,-3.425 1.5,-2.925 -1.5,-2.925 ; -1.5,-2.925 -0.5,-2.925 ; -1.5,-2.155 -1.5,-1.655 ; -1.5,-2.155 -0.5,-2.155 ; -1.5,-2.155 -1.5,-1.655 ; -1.5,-2.155 1.5,-2.155 1.5,-1.655 -1.5,-1.655 ; -1.5,-1.655 -0.5,-1.655 ; -1.5,-0.885 -1.5,-0.385 ; -1.5,-0.885 -0.5,-0.885 ; -1.5,-0.885 -1.5,-0.385 ; -1.5,-0.885 1.5,-0.885 1.5,-0.385 -1.5,-0.385 ; -1.5,-0.385 -0.5,-0.385 ; -1.5,0.385 -1.5,0.885 ; -1.5,0.385 -0.5,0.385 ; -1.5,0.385 -1.5,0.885 ; -1.5,0.385 1.5,0.385 1.5,0.885 -1.5,0.885 ; -1.5,0.885 -0.5,0.885 ; -1.5,1.655 -1.5,2.155 ; -1.5,1.655 -0.5,1.655 ; -1.5,1.655 -1.5,2.155 ; -1.5,1.655 1.5,1.655 1.5,2.155 -1.5,2.155 ; -1.5,2.155 -0.5,2.155 ; -1.5,2.925 -1.5,3.425 ; -1.5,2.925 -0.5,2.925 ; -1.5,2.925 -1.5,3.425 ; -1.5,2.925 1.5,2.925 1.5,3.425 -1.5,3.425 ; -1.5,3.425 -0.5,3.425 ; -1.5,4.195 -1.5,4.695 ; -1.5,4.195 -0.5,4.195 ; -1.5,4.195 -1.5,4.695 ; -1.5,4.195 1.5,4.195 1.5,4.695 -1.5,4.695 ; -1.5,4.695 -0.5,4.695 ; -1.5,5.465 -1.5,5.965 ; -1.5,5.465 -0.5,5.465 ; -1.5,5.465 -1.5,5.965 ; -1.5,5.465 1.5,5.465 1.5,5.965 -1.5,5.965 ; -1.5,5.965 -0.5,5.965 ; -0.5,-5.965 -0.5,-5.465 ; -0.5,-5.965 -0.5,-5.465 ; -0.5,-4.695 -0.5,-4.195 ; -0.5,-4.695 -0.5,-4.195 ; -0.5,-3.425 -0.5,-2.925 ; -0.5,-3.425 -0.5,-2.925 ; -0.5,-2.155 -0.5,-1.655 ; -0.5,-2.155 -0.5,-1.655 ; -0.5,-0.885 -0.5,-0.385 ; -0.5,-0.885 -0.5,-0.385 ; -0.5,0.385 -0.5,0.885 ; -0.5,0.385 -0.5,0.885 ; -0.5,1.655 -0.5,2.155 ; -0.5,1.655 -0.5,2.155 ; -0.5,2.925 -0.5,3.425 ; -0.5,2.925 -0.5,3.425 ; -0.5,4.195 -0.5,4.695 ; -0.5,4.195 -0.5,4.695 ; -0.5,5.465 -0.5,5.965 ; -0.5,5.465 -0.5,5.965 ; -2.7,-6.985 -2.7,5.985 -1.7,6.985 2.7,6.985 2.7,-6.985 -2.7,-6.985
  text "on" at 0.165,6.088 h0.8
Top Courtyard:
  lines w0.254: -3.59,-7.3 -3.59,7.3 3.59,7.3 3.59,-7.3 -3.59,-7.3
Top Designator:
  text ".Designator" at -0.345,3.432 h1.52
3D body "SW_DIP_SPSTx10_Slide_Copal_CHS-10A_W5.08mm_P1.27mm_JPin.step": height 2.65, standoff 0, extent -2.8,-6.965 2.8,6.965

## SW_DIP_SPSTx10_Slide_Copal_CHS-10B_W7.62mm_P1.27mm [mm] "SW_DIP_SPSTx10_Slide_Copal_CHS-10B_W7.62mm_P1.27mm"
pads (20):
  rrect25% 1.6x0.76 smd: 1(-3.81,5.715) 2(-3.81,4.445) 3(-3.81,3.175) 4(-3.81,1.905) 5(-3.81,0.635) 6(-3.81,-0.635) 7(-3.81,-1.905) 8(-3.81,-3.175) 9(-3.81,-4.445) 10(-3.81,-5.715) 11(3.81,-5.715) 12(3.81,-4.445) 13(3.81,-3.175) 14(3.81,-1.905) 15(3.81,-0.635) 16(3.81,0.635) 17(3.81,1.905) 18(3.81,3.175) 19(3.81,4.445) 20(3.81,5.715)
F.SilkS:
  lines w0.254: -4.61,6.395 -2.76,6.395 -2.76,7.045 2.76,7.045 2.76,5.775 ; -2.76,-5.775 -2.76,-7.045 2.76,-7.045 2.76,-5.775
Top Component Center:
  lines w0.127: -0.127,0 0.127,0 ; 0,-0.127 0,0.127
Top Assembly:
  lines w0.254: -1.5,-5.965 1.5,-5.965 1.5,-5.465 -1.5,-5.465 ; -1.5,-5.965 -1.5,-5.465 ; -1.5,-5.965 -0.5,-5.965 ; -1.5,-5.965 -1.5,-5.465 ; -1.5,-5.465 -0.5,-5.465 ; -1.5,-4.695 1.5,-4.695 1.5,-4.195 -1.5,-4.195 ; -1.5,-4.695 -1.5,-4.195 ; -1.5,-4.695 -0.5,-4.695 ; -1.5,-4.695 -1.5,-4.195 ; -1.5,-4.195 -0.5,-4.195 ; -1.5,-3.425 1.5,-3.425 1.5,-2.925 -1.5,-2.925 ; -1.5,-3.425 -1.5,-2.925 ; -1.5,-3.425 -0.5,-3.425 ; -1.5,-3.425 -1.5,-2.925 ; -1.5,-2.925 -0.5,-2.925 ; -1.5,-2.155 1.5,-2.155 1.5,-1.655 -1.5,-1.655 ; -1.5,-2.155 -1.5,-1.655 ; -1.5,-2.155 -0.5,-2.155 ; -1.5,-2.155 -1.5,-1.655 ; -1.5,-1.655 -0.5,-1.655 ; -1.5,-0.885 1.5,-0.885 1.5,-0.385 -1.5,-0.385 ; -1.5,-0.885 -1.5,-0.385 ; -1.5,-0.885 -0.5,-0.885 ; -1.5,-0.885 -1.5,-0.385 ; -1.5,-0.385 -0.5,-0.385 ; -1.5,0.385 1.5,0.385 1.5,0.885 -1.5,0.885 ; -1.5,0.385 -1.5,0.885 ; -1.5,0.385 -0.5,0.385 ; -1.5,0.385 -1.5,0.885 ; -1.5,0.885 -0.5,0.885 ; -1.5,1.655 1.5,1.655 1.5,2.155 -1.5,2.155 ; -1.5,1.655 -1.5,2.155 ; -1.5,1.655 -0.5,1.655 ; -1.5,1.655 -1.5,2.155 ; -1.5,2.155 -0.5,2.155 ; -1.5,2.925 1.5,2.925 1.5,3.425 -1.5,3.425 ; -1.5,2.925 -1.5,3.425 ; -1.5,2.925 -0.5,2.925 ; -1.5,2.925 -1.5,3.425 ; -1.5,3.425 -0.5,3.425 ; -1.5,4.195 1.5,4.195 1.5,4.695 -1.5,4.695 ; -1.5,4.195 -1.5,4.695 ; -1.5,4.195 -0.5,4.195 ; -1.5,4.195 -1.5,4.695 ; -1.5,4.695 -0.5,4.695 ; -1.5,5.465 1.5,5.465 1.5,5.965 -1.5,5.965 ; -1.5,5.465 -1.5,5.965 ; -1.5,5.465 -0.5,5.465 ; -1.5,5.465 -1.5,5.965 ; -1.5,5.965 -0.5,5.965 ; -0.5,-5.965 -0.5,-5.465 ; -0.5,-5.965 -0.5,-5.465 ; -0.5,-4.695 -0.5,-4.195 ; -0.5,-4.695 -0.5,-4.195 ; -0.5,-3.425 -0.5,-2.925 ; -0.5,-3.425 -0.5,-2.925 ; -0.5,-2.155 -0.5,-1.655 ; -0.5,-2.155 -0.5,-1.655 ; -0.5,-0.885 -0.5,-0.385 ; -0.5,-0.885 -0.5,-0.385 ; -0.5,0.385 -0.5,0.885 ; -0.5,0.385 -0.5,0.885 ; -0.5,1.655 -0.5,2.155 ; -0.5,1.655 -0.5,2.155 ; -0.5,2.925 -0.5,3.425 ; -0.5,2.925 -0.5,3.425 ; -0.5,4.195 -0.5,4.695 ; -0.5,4.195 -0.5,4.695 ; -0.5,5.465 -0.5,5.965 ; -0.5,5.465 -0.5,5.965 ; -2.7,-6.985 2.7,-6.985 2.7,6.985 -1.7,6.985 -2.7,5.985 -2.7,-6.985
  text "on" at -0.47,6.088 h0.8
Top Courtyard:
  lines w0.254: -4.86,-7.3 4.86,-7.3 4.86,7.3 -4.86,7.3 -4.86,-7.3
Top Designator:
  text ".Designator" at -2.504,3.559 h1.52
3D body "SW_DIP_SPSTx10_Slide_Copal_CHS-10B_W7.62mm_P1.27mm.step": height 2.6, standoff 0.03, extent -4,-6.965 4,6.965

## SW_DIP_SPSTx10_Slide_KingTek_DSHP10TJ_W5.25mm_P1.27mm_JPin [mm] "SW_DIP_SPSTx10_Slide_KingTek_DSHP10TJ_W5.25mm_P1.27mm_JPin"
pads (20):
  rrect25% 2.65x0.76 smd: 1(-2.625,5.715) 2(-2.625,4.445) 3(-2.625,3.175) 4(-2.625,1.905) 5(-2.625,0.635) 6(-2.625,-0.635) 7(-2.625,-1.905) 8(-2.625,-3.175) 9(-2.625,-4.445) 10(-2.625,-5.715) 11(2.625,-5.715) 12(2.625,-4.445) 13(2.625,-3.175) 14(2.625,-1.905) 15(2.625,-0.635) 16(2.625,0.635) 17(2.625,1.905) 18(2.625,3.175) 19(2.625,4.445) 20(2.625,5.715)
F.SilkS:
  lines w0.254: -3.95,6.395 -2.76,6.395 -2.76,7.31 2.76,7.31 2.76,6.335 ; -2.76,-6.335 -2.76,-7.31 2.76,-7.31 2.76,-6.335
Top Component Center:
  lines w0.127: -0.127,0 0.127,0 ; 0,-0.127 0,0.127
Top Assembly:
  lines w0.254: -1,-6.115 -1,-5.315 ; -1,-6.115 -0.333,-6.115 ; -1,-6.115 -1,-5.315 ; -1,-6.115 1,-6.115 1,-5.315 -1,-5.315 ; -1,-5.315 -0.333,-5.315 ; -1,-4.845 -1,-4.045 ; -1,-4.845 -0.333,-4.845 ; -1,-4.845 -1,-4.045 ; -1,-4.845 1,-4.845 1,-4.045 -1,-4.045 ; -1,-4.045 -0.333,-4.045 ; -1,-3.575 -1,-2.775 ; -1,-3.575 -0.333,-3.575 ; -1,-3.575 -1,-2.775 ; -1,-3.575 1,-3.575 1,-2.775 -1,-2.775 ; -1,-2.775 -0.333,-2.775 ; -1,-2.305 -1,-1.505 ; -1,-2.305 -0.333,-2.305 ; -1,-2.305 -1,-1.505 ; -1,-2.305 1,-2.305 1,-1.505 -1,-1.505 ; -1,-1.505 -0.333,-1.505 ; -1,-1.035 -1,-0.235 ; -1,-1.035 -0.333,-1.035 ; -1,-1.035 -1,-0.235 ; -1,-1.035 1,-1.035 1,-0.235 -1,-0.235 ; -1,-0.235 -0.333,-0.235 ; -1,0.235 -1,1.035 ; -1,0.235 -0.333,0.235 ; -1,0.235 -1,1.035 ; -1,0.235 1,0.235 1,1.035 -1,1.035 ; -1,1.035 -0.333,1.035 ; -1,1.505 -1,2.305 ; -1,1.505 -0.333,1.505 ; -1,1.505 -1,2.305 ; -1,1.505 1,1.505 1,2.305 -1,2.305 ; -1,2.305 -0.333,2.305 ; -1,2.775 -1,3.575 ; -1,2.775 -0.333,2.775 ; -1,2.775 -1,3.575 ; -1,2.775 1,2.775 1,3.575 -1,3.575 ; -1,3.575 -0.333,3.575 ; -1,4.045 -1,4.845 ; -1,4.045 -0.333,4.045 ; -1,4.045 -1,4.845 ; -1,4.045 1,4.045 1,4.845 -1,4.845 ; -1,4.845 -0.333,4.845 ; -1,5.315 -1,6.115 ; -1,5.315 -0.333,5.315 ; -1,5.315 -1,6.115 ; -1,5.315 1,5.315 1,6.115 -1,6.115 ; -1,6.115 -0.333,6.115 ; -0.333,-6.115 -0.333,-5.315 ; -0.333,-6.115 -0.333,-5.315 ; -0.333,-4.845 -0.333,-4.045 ; -0.333,-4.845 -0.333,-4.045 ; -0.333,-3.575 -0.333,-2.775 ; -0.333,-3.575 -0.333,-2.775 ; -0.333,-2.305 -0.333,-1.505 ; -0.333,-2.305 -0.333,-1.505 ; -0.333,-1.035 -0.333,-0.235 ; -0.333,-1.035 -0.333,-0.235 ; -0.333,0.235 -0.333,1.035 ; -0.333,0.235 -0.333,1.035 ; -0.333,1.505 -0.333,2.305 ; -0.333,1.505 -0.333,2.305 ; -0.333,2.775 -0.333,3.575 ; -0.333,2.775 -0.333,3.575 ; -0.333,4.045 -0.333,4.845 ; -0.333,4.045 -0.333,4.845 ; -0.333,5.315 -0.333,6.115 ; -0.333,5.315 -0.333,6.115 ; -2.7,-7.25 -2.7,6.25 -1.7,7.25 2.7,7.25 2.7,-7.25 -2.7,-7.25
  text "on" at -0.127,6.296 h0.8
Top Courtyard:
  lines w0.254: -4.2,-7.56 -4.2,7.56 4.2,7.56 4.2,-7.56 -4.2,-7.56
Top Designator:
  text ".Designator" at -0.345,3.432 h1.52
3D body "SW_DIP_SPSTx10_Slide_KingTek_DSHP10TJ_W5.25mm_P1.27mm_JPin.step": height 2.4, standoff -0.05, extent -2.8,-7.15 2.8,7.15

## SW_DIP_SPSTx10_Slide_KingTek_DSHP10TS_W7.62mm_P1.27mm [mm] "SW_DIP_SPSTx10_Slide_KingTek_DSHP10TS_W7.62mm_P1.27mm"
pads (20):
  rrect25% 1.27x0.76 smd: 1(-3.81,5.715) 2(-3.81,4.445) 3(-3.81,3.175) 4(-3.81,1.905) 5(-3.81,0.635) 6(-3.81,-0.635) 7(-3.81,-1.905) 8(-3.81,-3.175) 9(-3.81,-4.445) 10(-3.81,-5.715) 11(3.81,-5.715) 12(3.81,-4.445) 13(3.81,-3.175) 14(3.81,-1.905) 15(3.81,-0.635) 16(3.81,0.635) 17(3.81,1.905) 18(3.81,3.175) 19(3.81,4.445) 20(3.81,5.715)
F.SilkS:
  lines w0.254: -4.445,6.395 -2.76,6.395 -2.76,7.21 2.76,7.21 2.76,5.775 ; -2.76,-5.775 -2.76,-7.21 2.76,-7.21 2.76,-5.775
Top Component Center:
  lines w0.127: -0.127,0 0.127,0 ; 0,-0.127 0,0.127
Top Assembly:
  lines w0.254: -1,-6.115 -1,-5.315 ; -1,-6.115 -0.333,-6.115 ; -1,-6.115 -1,-5.315 ; -1,-6.115 1,-6.115 1,-5.315 -1,-5.315 ; -1,-5.315 -0.333,-5.315 ; -1,-4.845 -1,-4.045 ; -1,-4.845 -0.333,-4.845 ; -1,-4.845 -1,-4.045 ; -1,-4.845 1,-4.845 1,-4.045 -1,-4.045 ; -1,-4.045 -0.333,-4.045 ; -1,-3.575 -1,-2.775 ; -1,-3.575 -0.333,-3.575 ; -1,-3.575 -1,-2.775 ; -1,-3.575 1,-3.575 1,-2.775 -1,-2.775 ; -1,-2.775 -0.333,-2.775 ; -1,-2.305 -1,-1.505 ; -1,-2.305 -0.333,-2.305 ; -1,-2.305 -1,-1.505 ; -1,-2.305 1,-2.305 1,-1.505 -1,-1.505 ; -1,-1.505 -0.333,-1.505 ; -1,-1.035 -1,-0.235 ; -1,-1.035 -0.333,-1.035 ; -1,-1.035 -1,-0.235 ; -1,-1.035 1,-1.035 1,-0.235 -1,-0.235 ; -1,-0.235 -0.333,-0.235 ; -1,0.235 -1,1.035 ; -1,0.235 -0.333,0.235 ; -1,0.235 -1,1.035 ; -1,0.235 1,0.235 1,1.035 -1,1.035 ; -1,1.035 -0.333,1.035 ; -1,1.505 -1,2.305 ; -1,1.505 -0.333,1.505 ; -1,1.505 -1,2.305 ; -1,1.505 1,1.505 1,2.305 -1,2.305 ; -1,2.305 -0.333,2.305 ; -1,2.775 -1,3.575 ; -1,2.775 -0.333,2.775 ; -1,2.775 -1,3.575 ; -1,2.775 1,2.775 1,3.575 -1,3.575 ; -1,3.575 -0.333,3.575 ; -1,4.045 -1,4.845 ; -1,4.045 -0.333,4.045 ; -1,4.045 -1,4.845 ; -1,4.045 1,4.045 1,4.845 -1,4.845 ; -1,4.845 -0.333,4.845 ; -1,5.315 -1,6.115 ; -1,5.315 -0.333,5.315 ; -1,5.315 -1,6.115 ; -1,5.315 1,5.315 1,6.115 -1,6.115 ; -1,6.115 -0.333,6.115 ; -0.333,-6.115 -0.333,-5.315 ; -0.333,-6.115 -0.333,-5.315 ; -0.333,-4.845 -0.333,-4.045 ; -0.333,-4.845 -0.333,-4.045 ; -0.333,-3.575 -0.333,-2.775 ; -0.333,-3.575 -0.333,-2.775 ; -0.333,-2.305 -0.333,-1.505 ; -0.333,-2.305 -0.333,-1.505 ; -0.333,-1.035 -0.333,-0.235 ; -0.333,-1.035 -0.333,-0.235 ; -0.333,0.235 -0.333,1.035 ; -0.333,0.235 -0.333,1.035 ; -0.333,1.505 -0.333,2.305 ; -0.333,1.505 -0.333,2.305 ; -0.333,2.775 -0.333,3.575 ; -0.333,2.775 -0.333,3.575 ; -0.333,4.045 -0.333,4.845 ; -0.333,4.045 -0.333,4.845 ; -0.333,5.315 -0.333,6.115 ; -0.333,5.315 -0.333,6.115 ; -2.7,-7.15 -2.7,6.15 -1.7,7.15 2.7,7.15 2.7,-7.15 -2.7,-7.15
  text "on" at -0.72,6.246 h0.8
Top Courtyard:
  lines w0.254: -4.7,-7.46 -4.7,7.47 4.7,7.47 4.7,-7.46 -4.7,-7.46
Top Designator:
  text ".Designator" at -2.123,3.432 h1.52
3D body "SW_DIP_SPSTx10_Slide_KingTek_DSHP10TS_W7.62mm_P1.27mm.step": height 2.45, standoff 0.08, extent -4.175,-7.15 4.175,7.15

## SW_DIP_SPSTx10_Slide_Omron_A6H-10101_W6.15mm_P1.27mm [mm] "SW_DIP_SPSTx10_Slide_Omron_A6H-10101_W6.15mm_P1.27mm"
pads (20):
  rrect25% 1.25x0.76 smd: 1(-3.075,5.715) 2(-3.075,4.445) 3(-3.075,3.175) 4(-3.075,1.905) 5(-3.075,0.635) 6(-3.075,-0.635) 7(-3.075,-1.905) 8(-3.075,-3.175) 9(-3.075,-4.445) 10(-3.075,-5.715) 11(3.075,-5.715) 12(3.075,-4.445) 13(3.075,-3.175) 14(3.075,-1.905) 15(3.075,-0.635) 16(3.075,0.635) 17(3.075,1.905) 18(3.075,3.175) 19(3.075,4.445) 20(3.075,5.715)
F.SilkS:
  lines w0.254: -3.7,6.395 -2.31,6.395 -2.31,7.045 2.31,7.045 2.31,6.335 ; -2.31,-6.335 -2.31,-7.045 2.31,-7.045 2.31,-6.335
Top Component Center:
  lines w0.127: -0.127,0 0.127,0 ; 0,-0.127 0,0.127
Top Assembly:
  lines w0.254: -1.6,-5.965 -1.6,-5.465 ; -1.6,-5.965 -0.533,-5.965 ; -1.6,-5.965 -1.6,-5.465 ; -1.6,-5.965 1.6,-5.965 1.6,-5.465 -1.6,-5.465 ; -1.6,-5.465 -0.533,-5.465 ; -1.6,-4.695 -1.6,-4.195 ; -1.6,-4.695 -0.533,-4.695 ; -1.6,-4.695 -1.6,-4.195 ; -1.6,-4.695 1.6,-4.695 1.6,-4.195 -1.6,-4.195 ; -1.6,-4.195 -0.533,-4.195 ; -1.6,-3.425 -1.6,-2.925 ; -1.6,-3.425 -0.533,-3.425 ; -1.6,-3.425 -1.6,-2.925 ; -1.6,-3.425 1.6,-3.425 1.6,-2.925 -1.6,-2.925 ; -1.6,-2.925 -0.533,-2.925 ; -1.6,-2.155 -1.6,-1.655 ; -1.6,-2.155 -0.533,-2.155 ; -1.6,-2.155 -1.6,-1.655 ; -1.6,-2.155 1.6,-2.155 1.6,-1.655 -1.6,-1.655 ; -1.6,-1.655 -0.533,-1.655 ; -1.6,-0.885 -1.6,-0.385 ; -1.6,-0.885 -0.533,-0.885 ; -1.6,-0.885 -1.6,-0.385 ; -1.6,-0.885 1.6,-0.885 1.6,-0.385 -1.6,-0.385 ; -1.6,-0.385 -0.533,-0.385 ; -1.6,0.385 -1.6,0.885 ; -1.6,0.385 -0.533,0.385 ; -1.6,0.385 -1.6,0.885 ; -1.6,0.385 1.6,0.385 1.6,0.885 -1.6,0.885 ; -1.6,0.885 -0.533,0.885 ; -1.6,1.655 -1.6,2.155 ; -1.6,1.655 -0.533,1.655 ; -1.6,1.655 -1.6,2.155 ; -1.6,1.655 1.6,1.655 1.6,2.155 -1.6,2.155 ; -1.6,2.155 -0.533,2.155 ; -1.6,2.925 -1.6,3.425 ; -1.6,2.925 -0.533,2.925 ; -1.6,2.925 -1.6,3.425 ; -1.6,2.925 1.6,2.925 1.6,3.425 -1.6,3.425 ; -1.6,3.425 -0.533,3.425 ; -1.6,4.195 -1.6,4.695 ; -1.6,4.195 -0.533,4.195 ; -1.6,4.195 -1.6,4.695 ; -1.6,4.195 1.6,4.195 1.6,4.695 -1.6,4.695 ; -1.6,4.695 -0.533,4.695 ; -1.6,5.465 -1.6,5.965 ; -1.6,5.465 -0.533,5.465 ; -1.6,5.465 -1.6,5.965 ; -1.6,5.465 1.6,5.465 1.6,5.965 -1.6,5.965 ; -1.6,5.965 -0.533,5.965 ; -0.533,-5.965 -0.533,-5.465 ; -0.533,-5.965 -0.533,-5.465 ; -0.533,-4.695 -0.533,-4.195 ; -0.533,-4.695 -0.533,-4.195 ; -0.533,-3.425 -0.533,-2.925 ; -0.533,-3.425 -0.533,-2.925 ; -0.533,-2.155 -0.533,-1.655 ; -0.533,-2.155 -0.533,-1.655 ; -0.533,-0.885 -0.533,-0.385 ; -0.533,-0.885 -0.533,-0.385 ; -0.533,0.385 -0.533,0.885 ; -0.533,0.385 -0.533,0.885 ; -0.533,1.655 -0.533,2.155 ; -0.533,1.655 -0.533,2.155 ; -0.533,2.925 -0.533,3.425 ; -0.533,2.925 -0.533,3.425 ; -0.533,4.195 -0.533,4.695 ; -0.533,4.195 -0.533,4.695 ; -0.533,5.465 -0.533,5.965 ; -0.533,5.465 -0.533,5.965 ; -2.25,-6.985 -2.25,5.985 -1.25,6.985 2.25,6.985 2.25,-6.985 -2.25,-6.985
  text "on" at 0.009,6.255 h0.46
Top Courtyard:
  lines w0.254: -3.95,-7.3 -3.95,7.3 3.95,7.3 3.95,-7.3 -3.95,-7.3
Top Designator:
  text ".Designator" at -0.345,3.432 h1.52
3D body "SW_DIP_SPSTx10_Slide_Omron_A6H-10101_W6.15mm_P1.27mm.step": height 1.55, standoff 0.03, extent -3.35,-6.965 3.35,6.965